# EAGLE library part PIN_3X3 (library pinhead_3row)
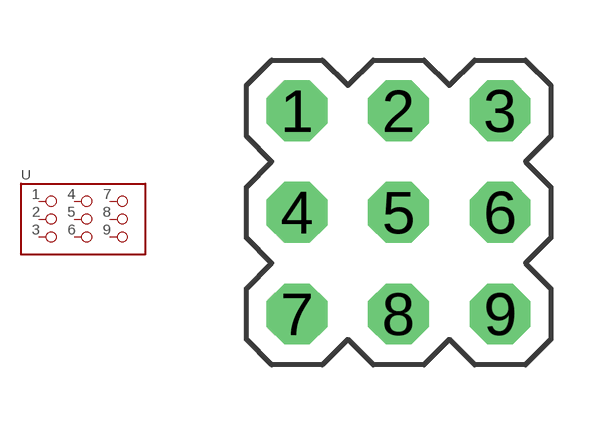
[diagram p7: symbol with the pads of PIN_3X3; footprint PIN_3X3]

Designator prefix -

## PIN_3X3  [PIN_3X3]
1  1
2  2
3  3
4  4
5  5
6  6
7  7
8  8
9  9

## Footprint PIN_3X3 (pad centres in mm)
drill 1.016 octagon: 1 1.27,-1.27; 2 3.81,-1.27; 3 6.35,-1.27; 4 1.27,-3.81; 5 3.81,-3.81; 6 6.35,-3.81; 7 1.27,-6.35; 8 3.81,-6.35; 9 6.35,-6.35